# EAGLE library part MA06-1 (library Custom)
PIN HEADER
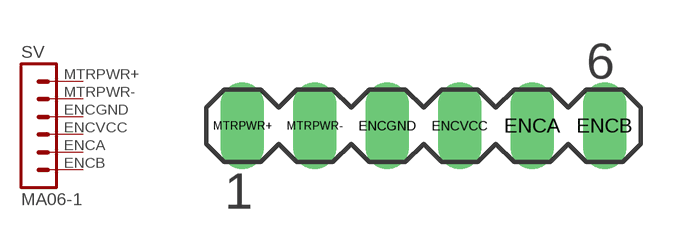
[diagram p2: symbol with the pads of MA06-1; footprint MA06-1]

Designator prefix SV

## MA06-1 (OC_FARNELL: unknown; OC_NEWARK: unknown)  [MA06-1]
ENCA  ENCA  pas
ENCB  ENCB  pas
ENCGND  ENCGND  pas
ENCVCC  ENCVCC  pas
MTRPWR+  MTRPWR  pas
MTRPWR-  MTRPWR-  pas

## Footprint MA06-1 (pad centres in mm)
PIN HEADER
drill 1.016 long: ENCA 3.81,0; ENCB 6.35,0; ENCGND -1.27,0; ENCVCC 1.27,0; MTRPWR+ -6.35,0; MTRPWR- -3.81,0